# Altium footprint library SW_TS16-1212-95-BK-160-SMT-TR.PcbLib: 1 footprints
Each footprint in its own frame and in the unit in brackets; x right, y up, seen from the top. Pads: shape width x height; smd on the part's side, far side on the other; paste and mask are expansions set on the pad; w line width, h text height; cw(c..) or ccw(c..) is an arc to the next point about the centre after c.
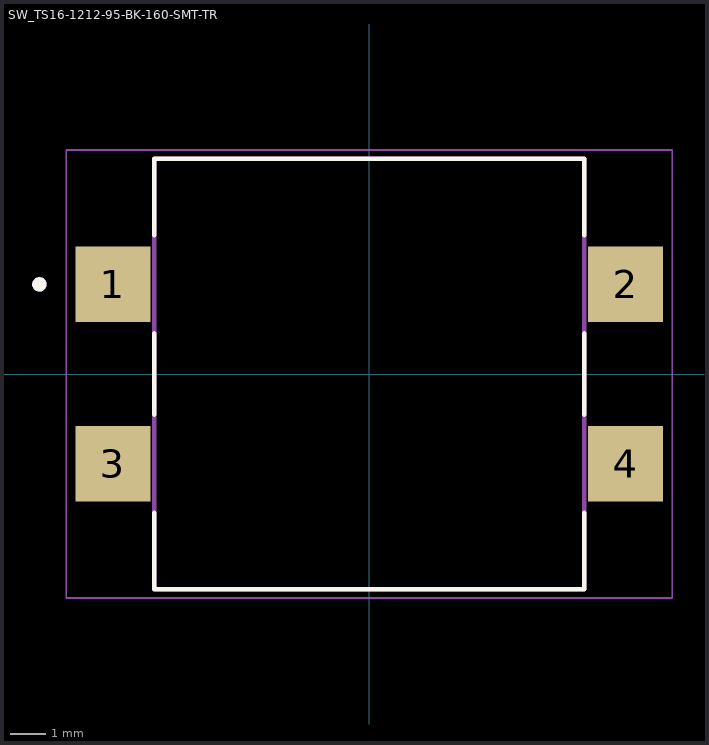
[diagram p0: the footprint, top view; thin cyan lines are the x and y axes]

## SW_TS16-1212-95-BK-160-SMT-TR [mm]
height 7.7
pads (4):
  rect 2.1x2.1 smd: 1(-7.15,2.5) 2(7.15,2.5) 3(-7.15,-2.5) 4(7.15,-2.5)
Top Overlay:
  circle w0.2: c-9.2,2.5 r0.1
  lines w0.127: -6,-3.87 -6,-6 6,-6 6,-3.87 ; -6,-1.13 -6,1.13 ; -6,3.87 -6,6 6,6 6,3.87 ; 6,-1.13 6,1.13
Assembly Top:
  circle w0.2: c-9.2,2.5 r0.1
  lines w0.127: -6,-6 6,-6 6,6 -6,6 -6,-6
Courtyard Top:
  lines w0.05: -8.45,-6.25 -8.45,6.25 8.45,6.25 8.45,-6.25 -8.45,-6.25
3D body "step_temp.STEP": height 9.2, standoff -0.4, extent -7.6,-6 7.6,6